# EAGLE library part ADNS-9500 (library robotter)
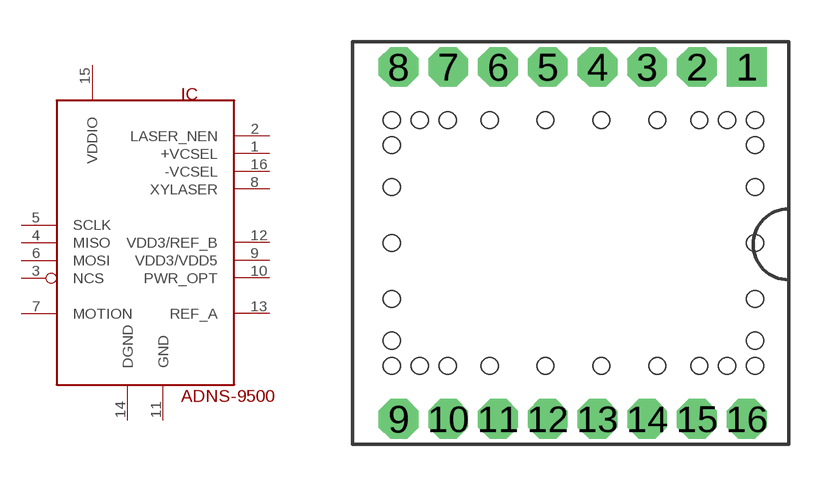
[diagram p10: symbol with the pads of ADNS-9500; footprint ADNS-9500]

Designator prefix IC

## ADNS-9500  [ADNS-9500]
1  +VCSEL  pwr
2  LASER_NEN  in
3  NCS  in
4  MISO  out
5  SCLK  in
6  MOSI  in
7  MOTION
8  XYLASER
9  VDD3/VDD5
10  PWR_OPT
11  GND  pwr
12  VDD3/REF_B
13  REF_A
14  DGND  pwr
15  VDDIO
16  -VCSEL  pwr

## Footprint ADNS-9500 (pad centres in mm)
drill 0.8 pad 1.422 square: 1 0,0
drill 0.8 pad 1.422 octagon: 2 -1.78,0; 3 -3.56,0; 4 -5.34,0; 5 -7.12,0; 6 -8.9,0; 7 -10.68,0; 8 -12.46,0; 9 -12.46,-12.6; 10 -10.68,-12.6; 11 -8.9,-12.6; 12 -7.12,-12.6; 13 -5.34,-12.6; 14 -3.56,-12.6; 15 -1.78,-12.6; 16 0,-12.6
hole 0.6 at -12.7,-1.9
hole 0.6 at 0.3,-1.9
hole 0.6 at 0.3,-10.7
hole 0.6 at -12.7,-10.7
hole 0.6 at -11.7,-1.9
hole 0.6 at -10.7,-1.9
hole 0.6 at -9.2,-1.9
hole 0.6 at -7.2,-1.9
hole 0.6 at -5.2,-1.9
hole 0.6 at -3.2,-1.9
hole 0.6 at -1.7,-1.9
hole 0.6 at -0.7,-1.9
hole 0.6 at -12.7,-2.8
hole 0.6 at -12.7,-4.3
hole 0.6 at -12.7,-6.3
hole 0.6 at 0.3,-6.3
hole 0.6 at 0.3,-4.3
hole 0.6 at 0.3,-2.8
hole 0.6 at -0.7,-10.7
hole 0.6 at -1.7,-10.7
hole 0.6 at -3.2,-10.7
hole 0.6 at -5.2,-10.7
hole 0.6 at -7.2,-10.7
hole 0.6 at -9.2,-10.7
hole 0.6 at -10.7,-10.7
hole 0.6 at -11.7,-10.7
hole 0.6 at 0.3,-9.8
hole 0.6 at 0.3,-8.3
hole 0.6 at -12.7,-8.3
hole 0.6 at -12.7,-9.8